# Altium footprint library ic_QFN.pcblib: 1 footprints
Each footprint in its own frame and in the unit in brackets; x right, y up, seen from the top. Pads: shape width x height; smd on the part's side, far side on the other; paste and mask are expansions set on the pad; w line width, h text height; cw(c..) or ccw(c..) is an arc to the next point about the centre after c.
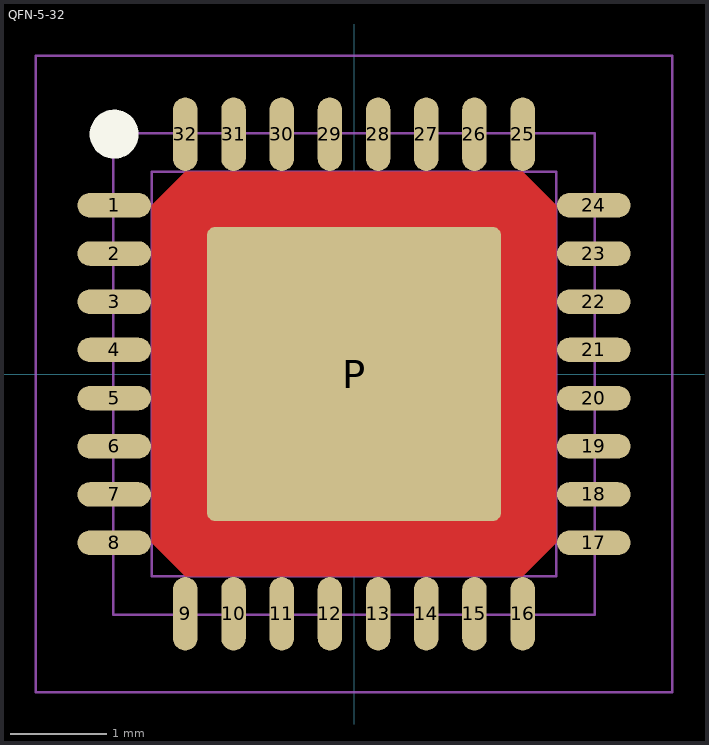
[diagram p0: the footprint, top view; thin cyan lines are the x and y axes]

## QFN-5-32 [mil] "QFN, 5x5mm, 32pins"
pads (33):
  oval 30x10 smd mask+2: 1(-98,68.9) 2(-98,49.21) 3(-98,29.53) 4(-98,9.84) 5(-98,-9.84) 6(-98,-29.53) 7(-98,-49.21) 8(-98,-68.9) 17(98,-68.9) 18(98,-49.21) 19(98,-29.53) 20(98,-9.84) 21(98,9.84) 22(98,29.53) 23(98,49.21) 24(98,68.9)
  oval 10x30 smd mask+2: 9(-68.9,-98) 10(-49.21,-98) 11(-29.53,-98) 12(-9.84,-98) 13(9.84,-98) 14(29.53,-98) 15(49.21,-98) 16(68.9,-98) 25(68.9,98) 26(49.21,98) 27(29.53,98) 28(9.84,98) 29(-9.84,98) 30(-29.53,98) 31(-49.21,98) 32(-68.9,98)
  rrect5% 120x120 smd paste-200 mask+2: P(0,0)
Top Layer:
  pour cut-out: 82.68,69 69,82.68 -69,82.68 -82.68,69 -82.68,-69 -69,-82.68 69,-82.68 82.68,-69
Top Overlay:
  circle w10: c-98,98 r5
Top Paste:
  region: 25,-25 25,-59 59,-59 59,-25
  region: -17,-25 -17,-59 17,-59 17,-25
  region: -25,-25 -59,-25 -59,-59 -25,-59
  region: -25,17 -59,17 -59,-17 -25,-17
  region: -25,25 -25,59 -59,59 -59,25
  rectangle: 25,25 59,59
  rectangle: 25,-17 59,17
  rectangle: -17,25 17,59
  rectangle: -17,-17 17,17
Mechanical 15:
  lines w1: -130,-130 -130,130 130,130 130,-130 -130,-130 ; -98.43,-98.43 98.43,-98.43 98.43,98.43 -98.43,98.43 -98.43,-98.43 ; -82.68,-82.68 -82.68,82.68 82.68,82.68 82.68,-82.68 -82.68,-82.68 ; -61.02,-61.02 -61.02,61.02 61.02,61.02 61.02,-61.02 -61.02,-61.02
3D body: height 10, standoff 0, extent -34.53,-99 -24.53,-89
3D body: height 10, standoff 0, extent -14.84,-99 -4.84,-89
3D body: height 10, standoff 0, extent 4.84,-99 14.84,-89
3D body: height 10, standoff 0, extent 24.53,-99 34.53,-89
3D body: height 10, standoff 0, extent 44.21,-99 54.21,-89
3D body: height 10, standoff 0, extent 63.9,-99 73.9,-89
3D body: height 10, standoff 0, extent -54.21,-99 -44.21,-89
3D body: height 10, standoff 0, extent -73.9,-99 -63.9,-89
3D body: height 10, standoff 0, extent -99,24.53 -89,34.53
3D body: height 10, standoff 0, extent -99,4.84 -89,14.84
3D body: height 10, standoff 0, extent -99,-14.84 -89,-4.84
3D body: height 10, standoff 0, extent -99,-34.53 -89,-24.53
3D body: height 10, standoff 0, extent -99,-54.21 -89,-44.21
3D body: height 10, standoff 0, extent -99,-73.9 -89,-63.9
3D body: height 10, standoff 0, extent -99,44.21 -89,54.21
3D body: height 10, standoff 0, extent -99,63.9 -89,73.9
3D body: height 10, standoff 0, extent 24.53,89 34.53,99
3D body: height 10, standoff 0, extent 4.84,89 14.84,99
3D body: height 10, standoff 0, extent -14.84,89 -4.84,99
3D body: height 10, standoff 0, extent -34.53,89 -24.53,99
3D body: height 10, standoff 0, extent -54.21,89 -44.21,99
3D body: height 10, standoff 0, extent -73.9,89 -63.9,99
3D body: height 10, standoff 0, extent 44.21,89 54.21,99
3D body: height 10, standoff 0, extent 63.9,89 73.9,99
3D body: height 10, standoff 0, extent 89,-73.9 99,-63.9
3D body: height 10, standoff 0, extent 89,-54.21 99,-44.21
3D body: height 10, standoff 0, extent 89,63.9 99,73.9
3D body: height 10, standoff 0, extent 89,44.21 99,54.21
3D body: height 10, standoff 0, extent 89,24.53 99,34.53
3D body: height 10, standoff 0, extent 89,4.84 99,14.84
3D body: height 10, standoff 0, extent 89,-14.84 99,-4.84
3D body: height 10, standoff 0, extent 89,-34.53 99,-24.53
3D body: height 35, standoff 0, extent -98.43,-98.43 98.43,98.43
3D body: height 36, standoff 5, extent -82.69,69.69 -69.69,82.69